# Altium integrated library Microchip Microcontroller 8-Bit PIC18.IntLib: 1312 symbols (part 42 of 56)
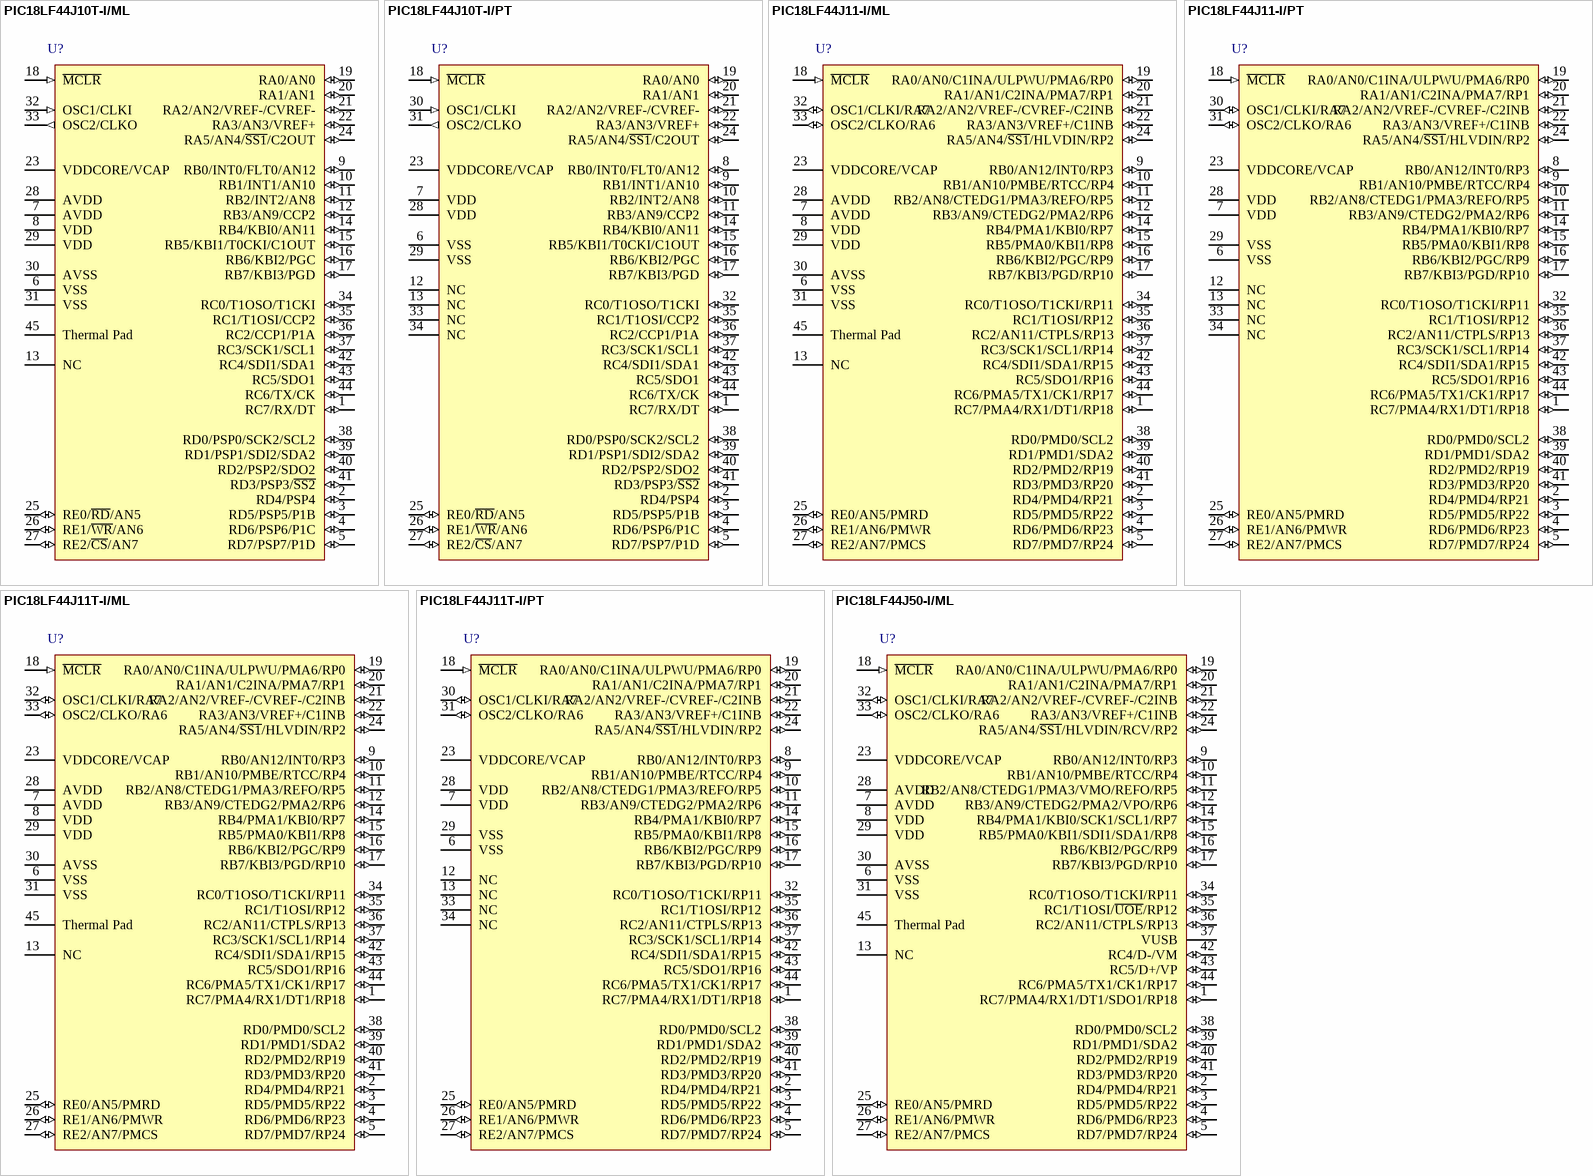
[diagram p189: symbols PIC18LF44J10T-I/ML to PIC18LF44J50-I/ML]

## PIC18LF44J10T-I/ML
designator U?
High Performance RISC Microcontroller with nanoWatt Technology, 16K Flash, 44-Pin QFN, Industrial Temperature Range, Tape and Reel; ComponentAvailability: Unknown. Contact manufacturer to determine status.; Published: 29-Jan-2009; LatestRevisionDate: 02-Dec-2009; LatestRevisionNote: Updated to datasheet revision E, May-2009; DatasheetVersion: revE, May-2009; PackageVersion: revBB, Aug-2009; PackageReference: QFN-ML44; Publisher: Altium Limited; PackageDescription: 44-Lead Plastic Quad Flat, No Lead Package (ML) - 8x8 mm Body [QFN]; Supplier 1: Digi-Key; Supplier Part Number 1: PIC18LF44J10T-I/ML-ND; Code_JEDEC: MO-220; Code_IPC: QFN65P800X800-44V2; ComponentLink1Description: Datasheet; ComponentLink1URL: http://ww1.microchip.com/downloads/en/DeviceDoc/39682E.pdf; ComponentLink2Description: Packaging Specification; ComponentLink2URL: http://www.microchip.com/stellent/groups/techpub_sg/documents/packagingspec/en012702.pdf; ComponentLink3Description: Microchip.com Home; ComponentLink3URL: http://www.microchip.com/
footprint QFN-ML44_N (QFN, 44-Leads, Body 8x8 mm, Pitch 0.65mm, IPC Medium Density)
footprint QFN-ML44_L (QFN, 44-Leads, Body 8x8 mm, Pitch 0.65mm, IPC High Density)
footprint QFN-ML44_M (QFN, 44-Leads, Body 8x8 mm, Pitch 0.65mm, IPC Low Density)
pins: 1 RC7/RX/DT (io), 2 RD4/PSP4 (io), 3 RD5/PSP5/P1B (io), 4 RD6/PSP6/P1C (io), 5 RD7/PSP7/P1D (io), 6 VSS (power), 7 AVDD (power), 8 VDD (power), 9 RB0/INT0/FLT0/AN12 (io), 10 RB1/INT1/AN10 (io), 11 RB2/INT2/AN8 (io), 12 RB3/AN9/CCP2 (io), 13 NC, 14 RB4/KBI0/AN11 (io), 15 RB5/KBI1/T0CKI/C1OUT (io), 16 RB6/KBI2/PGC (io), 17 RB7/KBI3/PGD (io), 18 ~{MCLR} (in), 19 RA0/AN0 (io), 20 RA1/AN1 (io), 21 RA2/AN2/VREF-/CVREF- (io), 22 RA3/AN3/VREF+ (io), 23 VDDCORE/VCAP (power), 24 RA5/AN4/~{SS1}/C2OUT (io), 25 RE0/~{RD}/AN5 (io), 26 RE1/~{WR}/AN6 (io), 27 RE2/~{CS}/AN7 (io), 28 AVDD (power), 29 VDD (power), 30 AVSS (power), 31 VSS (power), 32 OSC1/CLKI (in), 33 OSC2/CLKO (out), 34 RC0/T1OSO/T1CKI (io), 35 RC1/T1OSI/CCP2 (io), 36 RC2/CCP1/P1A (io), 37 RC3/SCK1/SCL1 (io), 38 RD0/PSP0/SCK2/SCL2 (io), 39 RD1/PSP1/SDI2/SDA2 (io), 40 RD2/PSP2/SDO2 (io), 41 RD3/PSP3/~{SS2} (io), 42 RC4/SDI1/SDA1 (io), 43 RC5/SDO1 (io), 44 RC6/TX/CK (io), 45 Thermal Pad (power)

## PIC18LF44J10T-I/PT
designator U?
High Performance RISC Microcontroller with nanoWatt Technology, 16K Flash, 44-Pin TQFP, Industrial Temperature Range, Tape and Reel; Published: 29-Jan-2009; LatestRevisionDate: 02-Dec-2009; LatestRevisionNote: Updated to datasheet revision E, May-2009; DatasheetVersion: revE, May-2009; PackageVersion: revBB, Aug-2009; PackageReference: TQFP-PT44; Publisher: Altium Limited; PackageDescription: 44-Lead Plastic Thin Quad Flatpack (PT) - 10x10x1mm Body, 2.00mm [TQFP]; Supplier 1: Digi-Key; Supplier Part Number 1: PIC18LF44J10T-I/PT-ND; Code_JEDEC: MS-026; ComponentLink1Description: Datasheet; ComponentLink1URL: http://ww1.microchip.com/downloads/en/DeviceDoc/39682E.pdf; ComponentLink2Description: Packaging Specification; ComponentLink2URL: http://www.microchip.com/stellent/groups/techpub_sg/documents/packagingspec/en012702.pdf; ComponentLink3Description: Microchip.com Home; ComponentLink3URL: http://www.microchip.com/
footprint TQFP-PT44_N (Thin QFP, 44-Leads, Body 10x10mm, Pitch 0.8mm, IPC Medium Density)
footprint TQFP-PT44_L (Thin QFP, 44-Leads, Body 10x10mm, Pitch 0.8mm, IPC High Density)
footprint TQFP-PT44_M (Thin QFP, 44-Leads, Body 10x10mm, Pitch 0.8mm, IPC Low Density)
pins: 1 RC7/RX/DT (io), 2 RD4/PSP4 (io), 3 RD5/PSP5/P1B (io), 4 RD6/PSP6/P1C (io), 5 RD7/PSP7/P1D (io), 6 VSS (power), 7 VDD (power), 8 RB0/INT0/FLT0/AN12 (io), 9 RB1/INT1/AN10 (io), 10 RB2/INT2/AN8 (io), 11 RB3/AN9/CCP2 (io), 12 NC, 13 NC, 14 RB4/KBI0/AN11 (io), 15 RB5/KBI1/T0CKI/C1OUT (io), 16 RB6/KBI2/PGC (io), 17 RB7/KBI3/PGD (io), 18 ~{MCLR} (in), 19 RA0/AN0 (io), 20 RA1/AN1 (io), 21 RA2/AN2/VREF-/CVREF- (io), 22 RA3/AN3/VREF+ (io), 23 VDDCORE/VCAP (power), 24 RA5/AN4/~{SS1}/C2OUT (io), 25 RE0/~{RD}/AN5 (io), 26 RE1/~{WR}/AN6 (io), 27 RE2/~{CS}/AN7 (io), 28 VDD (power), 29 VSS (power), 30 OSC1/CLKI (in), 31 OSC2/CLKO (out), 32 RC0/T1OSO/T1CKI (io), 33 NC, 34 NC, 35 RC1/T1OSI/CCP2 (io), 36 RC2/CCP1/P1A (io), 37 RC3/SCK1/SCL1 (io), 38 RD0/PSP0/SCK2/SCL2 (io), 39 RD1/PSP1/SDI2/SDA2 (io), 40 RD2/PSP2/SDO2 (io), 41 RD3/PSP3/~{SS2} (io), 42 RC4/SDI1/SDA1 (io), 43 RC5/SDO1 (io), 44 RC6/TX/CK (io)

## PIC18LF44J11-I/ML
designator U?
Low Power, High Performance Microcontroller with nanoWatt XLP Technology, 44-pin QFN, Industrial Temperature; Published: 2-Dec-2009; DatasheetVersion: revC, Oct-2009; PackageVersion: revBB, Aug-2009; PackageReference: QFN-ML44; Publisher: Altium Limited; PackageDescription: 44-Lead Plastic Quad Flat, No Lead Package (ML) - 8x8 mm Body [QFN]; Supplier 1: Digi-Key; Supplier Part Number 1: PIC18LF44J11-I/ML-ND; Supplier 2: Farnell; Supplier Part Number 2: 1770734; Code_JEDEC: MO-220; Code_IPC: QFN65P800X800-44V2; ComponentLink1Description: Datasheet; ComponentLink1URL: http://ww1.microchip.com/downloads/en/DeviceDoc/39932c.pdf; ComponentLink2Description: Packaging Specification; ComponentLink2URL: http://www.microchip.com/stellent/groups/techpub_sg/documents/packagingspec/en012702.pdf; ComponentLink3Description: Microchip.com Home; ComponentLink3URL: http://www.microchip.com/
footprint QFN-ML44_N (QFN, 44-Leads, Body 8x8 mm, Pitch 0.65mm, IPC Medium Density)
footprint QFN-ML44_L (QFN, 44-Leads, Body 8x8 mm, Pitch 0.65mm, IPC High Density)
footprint QFN-ML44_M (QFN, 44-Leads, Body 8x8 mm, Pitch 0.65mm, IPC Low Density)
pins: 1 RC7/PMA4/RX1/DT1/RP18 (io), 2 RD4/PMD4/RP21 (io), 3 RD5/PMD5/RP22 (io), 4 RD6/PMD6/RP23 (io), 5 RD7/PMD7/RP24 (io), 6 VSS (power), 7 AVDD (power), 8 VDD (power), 9 RB0/AN12/INT0/RP3 (io), 10 RB1/AN10/PMBE/RTCC/RP4 (io), 11 RB2/AN8/CTEDG1/PMA3/REFO/RP5 (io), 12 RB3/AN9/CTEDG2/PMA2/RP6 (io), 13 NC, 14 RB4/PMA1/KBI0/RP7 (io), 15 RB5/PMA0/KBI1/RP8 (io), 16 RB6/KBI2/PGC/RP9 (io), 17 RB7/KBI3/PGD/RP10 (io), 18 ~{MCLR} (in), 19 RA0/AN0/C1INA/ULPWU/PMA6/RP0 (io), 20 RA1/AN1/C2INA/PMA7/RP1 (io), 21 RA2/AN2/VREF-/CVREF-/C2INB (io), 22 RA3/AN3/VREF+/C1INB (io), 23 VDDCORE/VCAP (power), 24 RA5/AN4/~{SS1}/HLVDIN/RP2 (io), 25 RE0/AN5/PMRD (io), 26 RE1/AN6/PMWR (io), 27 RE2/AN7/PMCS (io), 28 AVDD (power), 29 VDD (power), 30 AVSS (power), 31 VSS (power), 32 OSC1/CLKI/RA7 (io), 33 OSC2/CLKO/RA6 (io), 34 RC0/T1OSO/T1CKI/RP11 (io), 35 RC1/T1OSI/RP12 (io), 36 RC2/AN11/CTPLS/RP13 (io), 37 RC3/SCK1/SCL1/RP14 (io), 38 RD0/PMD0/SCL2 (io), 39 RD1/PMD1/SDA2 (io), 40 RD2/PMD2/RP19 (io), 41 RD3/PMD3/RP20 (io), 42 RC4/SDI1/SDA1/RP15 (io), 43 RC5/SDO1/RP16 (io), 44 RC6/PMA5/TX1/CK1/RP17 (io), 45 Thermal Pad (power)

## PIC18LF44J11-I/PT
designator U?
Low Power, High Performance Microcontroller with nanoWatt XLP Technology, 44-pin TQFP, Industrial Temperature; Published: 2-Dec-2009; DatasheetVersion: revC, Oct-2009; PackageVersion: revBB, Aug-2009; PackageReference: TQFP-PT44; Publisher: Altium Limited; PackageDescription: 44-Lead Plastic Thin Quad Flatpack (PT) - 10x10x1mm Body, 2.00mm [TQFP]; Supplier 1: Digi-Key; Supplier Part Number 1: PIC18LF44J11-I/PT-ND; Supplier 2: Farnell; Supplier Part Number 2: 1770735; Code_JEDEC: MS-026; ComponentLink1Description: Datasheet; ComponentLink1URL: http://ww1.microchip.com/downloads/en/DeviceDoc/39932c.pdf; ComponentLink2Description: Packaging Specification; ComponentLink2URL: http://www.microchip.com/stellent/groups/techpub_sg/documents/packagingspec/en012702.pdf; ComponentLink3Description: Microchip.com Home; ComponentLink3URL: http://www.microchip.com/
footprint TQFP-PT44_N (Thin QFP, 44-Leads, Body 10x10mm, Pitch 0.8mm, IPC Medium Density)
footprint TQFP-PT44_L (Thin QFP, 44-Leads, Body 10x10mm, Pitch 0.8mm, IPC High Density)
footprint TQFP-PT44_M (Thin QFP, 44-Leads, Body 10x10mm, Pitch 0.8mm, IPC Low Density)
pins: 1 RC7/PMA4/RX1/DT1/RP18 (io), 2 RD4/PMD4/RP21 (io), 3 RD5/PMD5/RP22 (io), 4 RD6/PMD6/RP23 (io), 5 RD7/PMD7/RP24 (io), 6 VSS (power), 7 VDD (power), 8 RB0/AN12/INT0/RP3 (io), 9 RB1/AN10/PMBE/RTCC/RP4 (io), 10 RB2/AN8/CTEDG1/PMA3/REFO/RP5 (io), 11 RB3/AN9/CTEDG2/PMA2/RP6 (io), 12 NC, 13 NC, 14 RB4/PMA1/KBI0/RP7 (io), 15 RB5/PMA0/KBI1/RP8 (io), 16 RB6/KBI2/PGC/RP9 (io), 17 RB7/KBI3/PGD/RP10 (io), 18 ~{MCLR} (in), 19 RA0/AN0/C1INA/ULPWU/PMA6/RP0 (io), 20 RA1/AN1/C2INA/PMA7/RP1 (io), 21 RA2/AN2/VREF-/CVREF-/C2INB (io), 22 RA3/AN3/VREF+/C1INB (io), 23 VDDCORE/VCAP (power), 24 RA5/AN4/~{SS1}/HLVDIN/RP2 (io), 25 RE0/AN5/PMRD (io), 26 RE1/AN6/PMWR (io), 27 RE2/AN7/PMCS (io), 28 VDD (power), 29 VSS (power), 30 OSC1/CLKI/RA7 (io), 31 OSC2/CLKO/RA6 (io), 32 RC0/T1OSO/T1CKI/RP11 (io), 33 NC, 34 NC, 35 RC1/T1OSI/RP12 (io), 36 RC2/AN11/CTPLS/RP13 (io), 37 RC3/SCK1/SCL1/RP14 (io), 38 RD0/PMD0/SCL2 (io), 39 RD1/PMD1/SDA2 (io), 40 RD2/PMD2/RP19 (io), 41 RD3/PMD3/RP20 (io), 42 RC4/SDI1/SDA1/RP15 (io), 43 RC5/SDO1/RP16 (io), 44 RC6/PMA5/TX1/CK1/RP17 (io)

## PIC18LF44J11T-I/ML
designator U?
Low Power, High Performance Microcontroller with nanoWatt XLP Technology, 44-pin QFN, Industrial Temperature, Tape and Reel; Published: 2-Dec-2009; DatasheetVersion: revC, Oct-2009; PackageVersion: revBB, Aug-2009; PackageReference: QFN-ML44; Publisher: Altium Limited; PackageDescription: 44-Lead Plastic Quad Flat, No Lead Package (ML) - 8x8 mm Body [QFN]; Supplier 1: Digi-Key; Supplier Part Number 1: PIC18LF44J11T-I/ML-ND; Code_JEDEC: MO-220; Code_IPC: QFN65P800X800-44V2; ComponentLink1Description: Datasheet; ComponentLink1URL: http://ww1.microchip.com/downloads/en/DeviceDoc/39932c.pdf; ComponentLink2Description: Packaging Specification; ComponentLink2URL: http://www.microchip.com/stellent/groups/techpub_sg/documents/packagingspec/en012702.pdf; ComponentLink3Description: Microchip.com Home; ComponentLink3URL: http://www.microchip.com/
footprint QFN-ML44_N (QFN, 44-Leads, Body 8x8 mm, Pitch 0.65mm, IPC Medium Density)
footprint QFN-ML44_L (QFN, 44-Leads, Body 8x8 mm, Pitch 0.65mm, IPC High Density)
footprint QFN-ML44_M (QFN, 44-Leads, Body 8x8 mm, Pitch 0.65mm, IPC Low Density)
pins: 1 RC7/PMA4/RX1/DT1/RP18 (io), 2 RD4/PMD4/RP21 (io), 3 RD5/PMD5/RP22 (io), 4 RD6/PMD6/RP23 (io), 5 RD7/PMD7/RP24 (io), 6 VSS (power), 7 AVDD (power), 8 VDD (power), 9 RB0/AN12/INT0/RP3 (io), 10 RB1/AN10/PMBE/RTCC/RP4 (io), 11 RB2/AN8/CTEDG1/PMA3/REFO/RP5 (io), 12 RB3/AN9/CTEDG2/PMA2/RP6 (io), 13 NC, 14 RB4/PMA1/KBI0/RP7 (io), 15 RB5/PMA0/KBI1/RP8 (io), 16 RB6/KBI2/PGC/RP9 (io), 17 RB7/KBI3/PGD/RP10 (io), 18 ~{MCLR} (in), 19 RA0/AN0/C1INA/ULPWU/PMA6/RP0 (io), 20 RA1/AN1/C2INA/PMA7/RP1 (io), 21 RA2/AN2/VREF-/CVREF-/C2INB (io), 22 RA3/AN3/VREF+/C1INB (io), 23 VDDCORE/VCAP (power), 24 RA5/AN4/~{SS1}/HLVDIN/RP2 (io), 25 RE0/AN5/PMRD (io), 26 RE1/AN6/PMWR (io), 27 RE2/AN7/PMCS (io), 28 AVDD (power), 29 VDD (power), 30 AVSS (power), 31 VSS (power), 32 OSC1/CLKI/RA7 (io), 33 OSC2/CLKO/RA6 (io), 34 RC0/T1OSO/T1CKI/RP11 (io), 35 RC1/T1OSI/RP12 (io), 36 RC2/AN11/CTPLS/RP13 (io), 37 RC3/SCK1/SCL1/RP14 (io), 38 RD0/PMD0/SCL2 (io), 39 RD1/PMD1/SDA2 (io), 40 RD2/PMD2/RP19 (io), 41 RD3/PMD3/RP20 (io), 42 RC4/SDI1/SDA1/RP15 (io), 43 RC5/SDO1/RP16 (io), 44 RC6/PMA5/TX1/CK1/RP17 (io), 45 Thermal Pad (power)

## PIC18LF44J11T-I/PT
designator U?
Low Power, High Performance Microcontroller with nanoWatt XLP Technology, 44-pin TQFP, Industrial Temperature, Tape and Reel; Published: 2-Dec-2009; DatasheetVersion: revC, Oct-2009; PackageVersion: revBB, Aug-2009; PackageReference: TQFP-PT44; Publisher: Altium Limited; PackageDescription: 44-Lead Plastic Thin Quad Flatpack (PT) - 10x10x1mm Body, 2.00mm [TQFP]; Supplier 1: Digi-Key; Supplier Part Number 1: PIC18LF44J11T-I/PT-ND; Code_JEDEC: MS-026; ComponentLink1Description: Datasheet; ComponentLink1URL: http://ww1.microchip.com/downloads/en/DeviceDoc/39932c.pdf; ComponentLink2Description: Packaging Specification; ComponentLink2URL: http://www.microchip.com/stellent/groups/techpub_sg/documents/packagingspec/en012702.pdf; ComponentLink3Description: Microchip.com Home; ComponentLink3URL: http://www.microchip.com/
footprint TQFP-PT44_N (Thin QFP, 44-Leads, Body 10x10mm, Pitch 0.8mm, IPC Medium Density)
footprint TQFP-PT44_L (Thin QFP, 44-Leads, Body 10x10mm, Pitch 0.8mm, IPC High Density)
footprint TQFP-PT44_M (Thin QFP, 44-Leads, Body 10x10mm, Pitch 0.8mm, IPC Low Density)
pins: 1 RC7/PMA4/RX1/DT1/RP18 (io), 2 RD4/PMD4/RP21 (io), 3 RD5/PMD5/RP22 (io), 4 RD6/PMD6/RP23 (io), 5 RD7/PMD7/RP24 (io), 6 VSS (power), 7 VDD (power), 8 RB0/AN12/INT0/RP3 (io), 9 RB1/AN10/PMBE/RTCC/RP4 (io), 10 RB2/AN8/CTEDG1/PMA3/REFO/RP5 (io), 11 RB3/AN9/CTEDG2/PMA2/RP6 (io), 12 NC, 13 NC, 14 RB4/PMA1/KBI0/RP7 (io), 15 RB5/PMA0/KBI1/RP8 (io), 16 RB6/KBI2/PGC/RP9 (io), 17 RB7/KBI3/PGD/RP10 (io), 18 ~{MCLR} (in), 19 RA0/AN0/C1INA/ULPWU/PMA6/RP0 (io), 20 RA1/AN1/C2INA/PMA7/RP1 (io), 21 RA2/AN2/VREF-/CVREF-/C2INB (io), 22 RA3/AN3/VREF+/C1INB (io), 23 VDDCORE/VCAP (power), 24 RA5/AN4/~{SS1}/HLVDIN/RP2 (io), 25 RE0/AN5/PMRD (io), 26 RE1/AN6/PMWR (io), 27 RE2/AN7/PMCS (io), 28 VDD (power), 29 VSS (power), 30 OSC1/CLKI/RA7 (io), 31 OSC2/CLKO/RA6 (io), 32 RC0/T1OSO/T1CKI/RP11 (io), 33 NC, 34 NC, 35 RC1/T1OSI/RP12 (io), 36 RC2/AN11/CTPLS/RP13 (io), 37 RC3/SCK1/SCL1/RP14 (io), 38 RD0/PMD0/SCL2 (io), 39 RD1/PMD1/SDA2 (io), 40 RD2/PMD2/RP19 (io), 41 RD3/PMD3/RP20 (io), 42 RC4/SDI1/SDA1/RP15 (io), 43 RC5/SDO1/RP16 (io), 44 RC6/PMA5/TX1/CK1/RP17 (io)

## PIC18LF44J50-I/ML
designator U?
Low Power, High Performance USB Microcontroller with nanoWatt XLP Technology, 44-pin QFN, Industrial Temperature; Published: 2-Dec-2009; DatasheetVersion: revC, Oct-2009; PackageVersion: revBB, Aug-2009; PackageReference: QFN-ML44; Publisher: Altium Limited; PackageDescription: 44-Lead Plastic Quad Flat, No Lead Package (ML) - 8x8 mm Body [QFN]; Supplier 1: Digi-Key; Supplier Part Number 1: PIC18LF44J50-I/ML-ND; Supplier 2: Farnell; Supplier Part Number 2: 1770736; Code_JEDEC: MO-220; Code_IPC: QFN65P800X800-44V2; ComponentLink1Description: Datasheet; ComponentLink1URL: http://ww1.microchip.com/downloads/en/DeviceDoc/39931c.pdf; ComponentLink2Description: Packaging Specification; ComponentLink2URL: http://www.microchip.com/stellent/groups/techpub_sg/documents/packagingspec/en012702.pdf; ComponentLink3Description: Microchip.com Home; ComponentLink3URL: http://www.microchip.com/
footprint QFN-ML44_N (QFN, 44-Leads, Body 8x8 mm, Pitch 0.65mm, IPC Medium Density)
footprint QFN-ML44_L (QFN, 44-Leads, Body 8x8 mm, Pitch 0.65mm, IPC High Density)
footprint QFN-ML44_M (QFN, 44-Leads, Body 8x8 mm, Pitch 0.65mm, IPC Low Density)
pins: 1 RC7/PMA4/RX1/DT1/SDO1/RP18 (io), 2 RD4/PMD4/RP21 (io), 3 RD5/PMD5/RP22 (io), 4 RD6/PMD6/RP23 (io), 5 RD7/PMD7/RP24 (io), 6 VSS (power), 7 AVDD (power), 8 VDD (power), 9 RB0/AN12/INT0/RP3 (io), 10 RB1/AN10/PMBE/RTCC/RP4 (io), 11 RB2/AN8/CTEDG1/PMA3/VMO/REFO/RP5 (io), 12 RB3/AN9/CTEDG2/PMA2/VPO/RP6 (io), 13 NC, 14 RB4/PMA1/KBI0/SCK1/SCL1/RP7 (io), 15 RB5/PMA0/KBI1/SDI1/SDA1/RP8 (io), 16 RB6/KBI2/PGC/RP9 (io), 17 RB7/KBI3/PGD/RP10 (io), 18 ~{MCLR} (in), 19 RA0/AN0/C1INA/ULPWU/PMA6/RP0 (io), 20 RA1/AN1/C2INA/PMA7/RP1 (io), 21 RA2/AN2/VREF-/CVREF-/C2INB (io), 22 RA3/AN3/VREF+/C1INB (io), 23 VDDCORE/VCAP (power), 24 RA5/AN4/~{SS1}/HLVDIN/RCV/RP2 (io), 25 RE0/AN5/PMRD (io), 26 RE1/AN6/PMWR (io), 27 RE2/AN7/PMCS (io), 28 AVDD (power), 29 VDD (power), 30 AVSS (power), 31 VSS (power), 32 OSC1/CLKI/RA7 (io), 33 OSC2/CLKO/RA6 (io), 34 RC0/T1OSO/T1CKI/RP11 (io), 35 RC1/T1OSI/~{UOE}/RP12 (io), 36 RC2/AN11/CTPLS/RP13 (io), 37 VUSB (power), 38 RD0/PMD0/SCL2 (io), 39 RD1/PMD1/SDA2 (io), 40 RD2/PMD2/RP19 (io), 41 RD3/PMD3/RP20 (io), 42 RC4/D-/VM (io), 43 RC5/D+/VP (io), 44 RC6/PMA5/TX1/CK1/RP17 (io), 45 Thermal Pad (power)

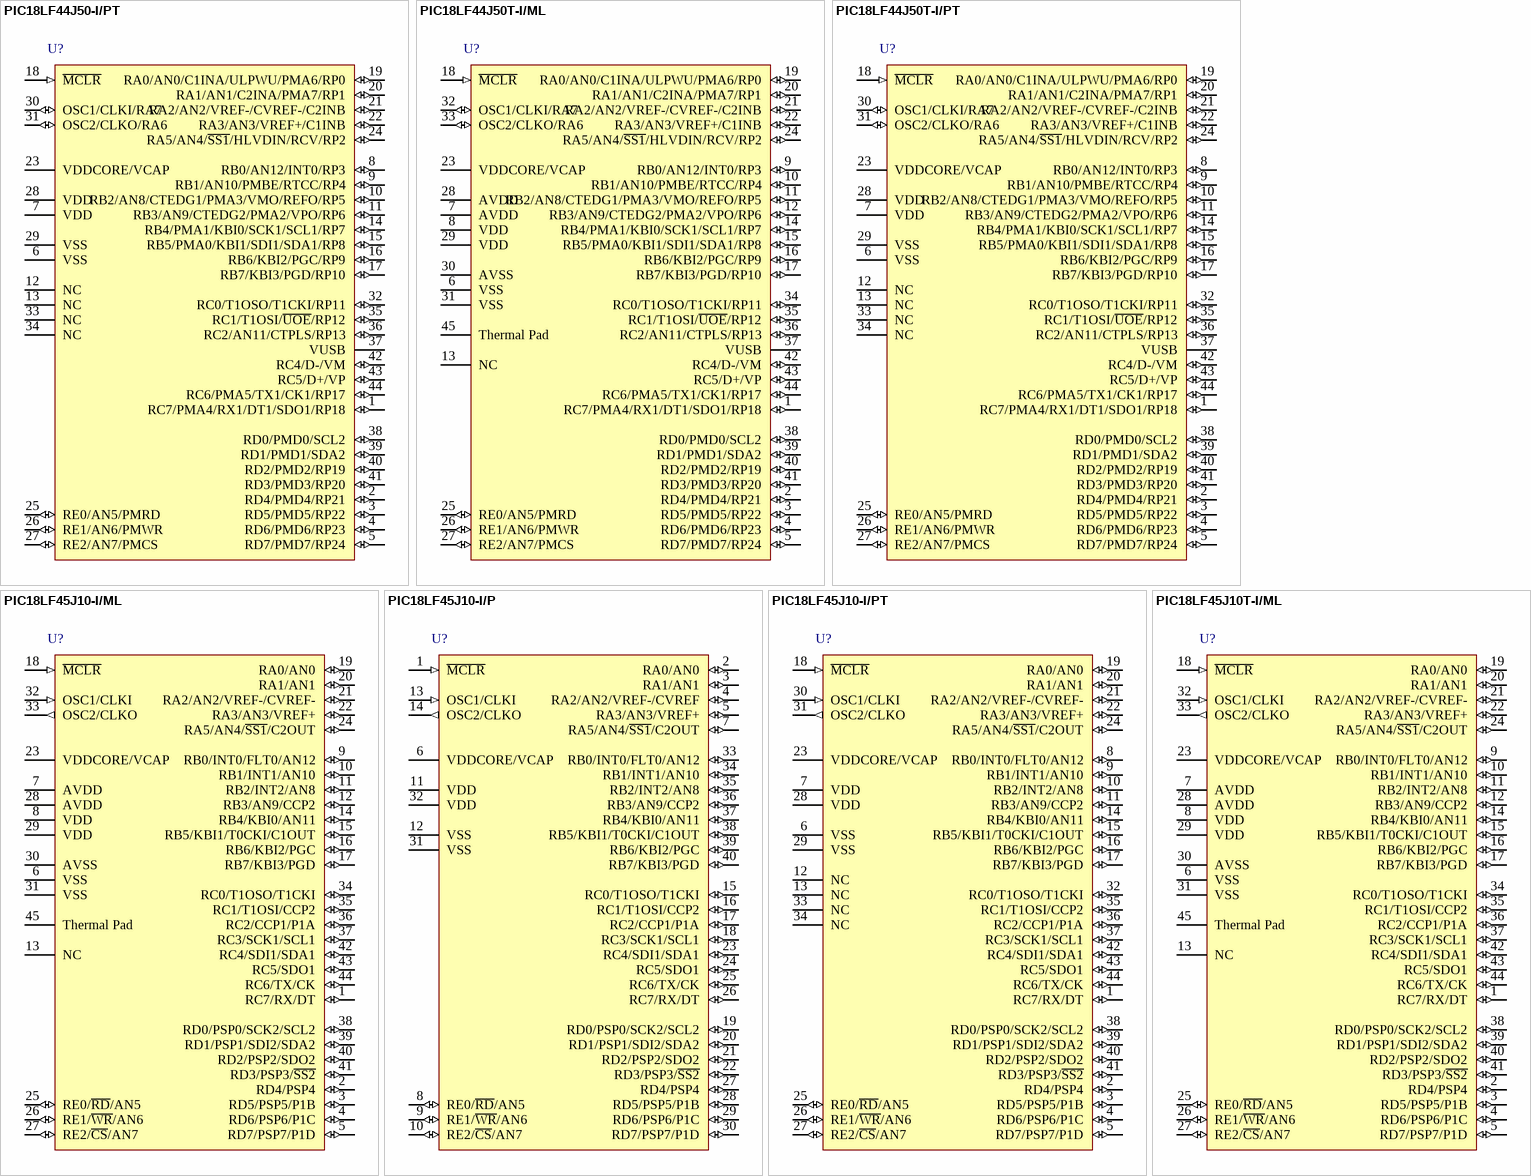
[diagram p113: symbols PIC18LF44J50-I/PT to PIC18LF45J10T-I/ML]

## PIC18LF44J50-I/PT
designator U?
Low Power, High Performance USB Microcontroller with nanoWatt XLP Technology, 44-pin TQFP, Industrial Temperature; Published: 2-Dec-2009; DatasheetVersion: revC, Oct-2009; PackageVersion: revBB, Aug-2009; PackageReference: TQFP-PT44; Publisher: Altium Limited; PackageDescription: 44-Lead Plastic Thin Quad Flatpack (PT) - 10x10x1mm Body, 2.00mm [TQFP]; Supplier 1: Digi-Key; Supplier Part Number 1: PIC18LF44J50-I/PT-ND; Supplier 2: Farnell; Supplier Part Number 2: 1770737; Code_JEDEC: MS-026; ComponentLink1Description: Datasheet; ComponentLink1URL: http://ww1.microchip.com/downloads/en/DeviceDoc/39931c.pdf; ComponentLink2Description: Packaging Specification; ComponentLink2URL: http://www.microchip.com/stellent/groups/techpub_sg/documents/packagingspec/en012702.pdf; ComponentLink3Description: Microchip.com Home; ComponentLink3URL: http://www.microchip.com/
footprint TQFP-PT44_N (Thin QFP, 44-Leads, Body 10x10mm, Pitch 0.8mm, IPC Medium Density)
footprint TQFP-PT44_L (Thin QFP, 44-Leads, Body 10x10mm, Pitch 0.8mm, IPC High Density)
footprint TQFP-PT44_M (Thin QFP, 44-Leads, Body 10x10mm, Pitch 0.8mm, IPC Low Density)
pins: 1 RC7/PMA4/RX1/DT1/SDO1/RP18 (io), 2 RD4/PMD4/RP21 (io), 3 RD5/PMD5/RP22 (io), 4 RD6/PMD6/RP23 (io), 5 RD7/PMD7/RP24 (io), 6 VSS (power), 7 VDD (power), 8 RB0/AN12/INT0/RP3 (io), 9 RB1/AN10/PMBE/RTCC/RP4 (io), 10 RB2/AN8/CTEDG1/PMA3/VMO/REFO/RP5 (io), 11 RB3/AN9/CTEDG2/PMA2/VPO/RP6 (io), 12 NC, 13 NC, 14 RB4/PMA1/KBI0/SCK1/SCL1/RP7 (io), 15 RB5/PMA0/KBI1/SDI1/SDA1/RP8 (io), 16 RB6/KBI2/PGC/RP9 (io), 17 RB7/KBI3/PGD/RP10 (io), 18 ~{MCLR} (in), 19 RA0/AN0/C1INA/ULPWU/PMA6/RP0 (io), 20 RA1/AN1/C2INA/PMA7/RP1 (io), 21 RA2/AN2/VREF-/CVREF-/C2INB (io), 22 RA3/AN3/VREF+/C1INB (io), 23 VDDCORE/VCAP (power), 24 RA5/AN4/~{SS1}/HLVDIN/RCV/RP2 (io), 25 RE0/AN5/PMRD (io), 26 RE1/AN6/PMWR (io), 27 RE2/AN7/PMCS (io), 28 VDD (power), 29 VSS (power), 30 OSC1/CLKI/RA7 (io), 31 OSC2/CLKO/RA6 (io), 32 RC0/T1OSO/T1CKI/RP11 (io), 33 NC, 34 NC, 35 RC1/T1OSI/~{UOE}/RP12 (io), 36 RC2/AN11/CTPLS/RP13 (io), 37 VUSB (power), 38 RD0/PMD0/SCL2 (io), 39 RD1/PMD1/SDA2 (io), 40 RD2/PMD2/RP19 (io), 41 RD3/PMD3/RP20 (io), 42 RC4/D-/VM (io), 43 RC5/D+/VP (io), 44 RC6/PMA5/TX1/CK1/RP17 (io)

## PIC18LF44J50T-I/ML
designator U?
Low Power, High Performance USB Microcontroller with nanoWatt XLP Technology, 44-pin QFN, Industrial Temperature, Tape and Reel; Published: 2-Dec-2009; DatasheetVersion: revC, Oct-2009; PackageVersion: revBB, Aug-2009; PackageReference: QFN-ML44; Publisher: Altium Limited; PackageDescription: 44-Lead Plastic Quad Flat, No Lead Package (ML) - 8x8 mm Body [QFN]; Supplier 1: Digi-Key; Supplier Part Number 1: PIC18LF44J50T-I/ML-ND; Code_JEDEC: MO-220; Code_IPC: QFN65P800X800-44V2; ComponentLink1Description: Datasheet; ComponentLink1URL: http://ww1.microchip.com/downloads/en/DeviceDoc/39931c.pdf; ComponentLink2Description: Packaging Specification; ComponentLink2URL: http://www.microchip.com/stellent/groups/techpub_sg/documents/packagingspec/en012702.pdf; ComponentLink3Description: Microchip.com Home; ComponentLink3URL: http://www.microchip.com/
footprint QFN-ML44_N (QFN, 44-Leads, Body 8x8 mm, Pitch 0.65mm, IPC Medium Density)
footprint QFN-ML44_L (QFN, 44-Leads, Body 8x8 mm, Pitch 0.65mm, IPC High Density)
footprint QFN-ML44_M (QFN, 44-Leads, Body 8x8 mm, Pitch 0.65mm, IPC Low Density)
pins: 1 RC7/PMA4/RX1/DT1/SDO1/RP18 (io), 2 RD4/PMD4/RP21 (io), 3 RD5/PMD5/RP22 (io), 4 RD6/PMD6/RP23 (io), 5 RD7/PMD7/RP24 (io), 6 VSS (power), 7 AVDD (power), 8 VDD (power), 9 RB0/AN12/INT0/RP3 (io), 10 RB1/AN10/PMBE/RTCC/RP4 (io), 11 RB2/AN8/CTEDG1/PMA3/VMO/REFO/RP5 (io), 12 RB3/AN9/CTEDG2/PMA2/VPO/RP6 (io), 13 NC, 14 RB4/PMA1/KBI0/SCK1/SCL1/RP7 (io), 15 RB5/PMA0/KBI1/SDI1/SDA1/RP8 (io), 16 RB6/KBI2/PGC/RP9 (io), 17 RB7/KBI3/PGD/RP10 (io), 18 ~{MCLR} (in), 19 RA0/AN0/C1INA/ULPWU/PMA6/RP0 (io), 20 RA1/AN1/C2INA/PMA7/RP1 (io), 21 RA2/AN2/VREF-/CVREF-/C2INB (io), 22 RA3/AN3/VREF+/C1INB (io), 23 VDDCORE/VCAP (power), 24 RA5/AN4/~{SS1}/HLVDIN/RCV/RP2 (io), 25 RE0/AN5/PMRD (io), 26 RE1/AN6/PMWR (io), 27 RE2/AN7/PMCS (io), 28 AVDD (power), 29 VDD (power), 30 AVSS (power), 31 VSS (power), 32 OSC1/CLKI/RA7 (io), 33 OSC2/CLKO/RA6 (io), 34 RC0/T1OSO/T1CKI/RP11 (io), 35 RC1/T1OSI/~{UOE}/RP12 (io), 36 RC2/AN11/CTPLS/RP13 (io), 37 VUSB (power), 38 RD0/PMD0/SCL2 (io), 39 RD1/PMD1/SDA2 (io), 40 RD2/PMD2/RP19 (io), 41 RD3/PMD3/RP20 (io), 42 RC4/D-/VM (io), 43 RC5/D+/VP (io), 44 RC6/PMA5/TX1/CK1/RP17 (io), 45 Thermal Pad (power)

## PIC18LF44J50T-I/PT
designator U?
Low Power, High Performance USB Microcontroller with nanoWatt XLP Technology, 44-pin TQFP, Industrial Temperature, Tape and Reel; Published: 2-Dec-2009; DatasheetVersion: revC, Oct-2009; PackageVersion: revBB, Aug-2009; PackageReference: TQFP-PT44; Publisher: Altium Limited; PackageDescription: 44-Lead Plastic Thin Quad Flatpack (PT) - 10x10x1mm Body, 2.00mm [TQFP]; Supplier 1: Digi-Key; Supplier Part Number 1: PIC18LF44J50T-I/PT-ND; Code_JEDEC: MS-026; ComponentLink1Description: Datasheet; ComponentLink1URL: http://ww1.microchip.com/downloads/en/DeviceDoc/39931c.pdf; ComponentLink2Description: Packaging Specification; ComponentLink2URL: http://www.microchip.com/stellent/groups/techpub_sg/documents/packagingspec/en012702.pdf; ComponentLink3Description: Microchip.com Home; ComponentLink3URL: http://www.microchip.com/
footprint TQFP-PT44_N (Thin QFP, 44-Leads, Body 10x10mm, Pitch 0.8mm, IPC Medium Density)
footprint TQFP-PT44_L (Thin QFP, 44-Leads, Body 10x10mm, Pitch 0.8mm, IPC High Density)
footprint TQFP-PT44_M (Thin QFP, 44-Leads, Body 10x10mm, Pitch 0.8mm, IPC Low Density)
pins: 1 RC7/PMA4/RX1/DT1/SDO1/RP18 (io), 2 RD4/PMD4/RP21 (io), 3 RD5/PMD5/RP22 (io), 4 RD6/PMD6/RP23 (io), 5 RD7/PMD7/RP24 (io), 6 VSS (power), 7 VDD (power), 8 RB0/AN12/INT0/RP3 (io), 9 RB1/AN10/PMBE/RTCC/RP4 (io), 10 RB2/AN8/CTEDG1/PMA3/VMO/REFO/RP5 (io), 11 RB3/AN9/CTEDG2/PMA2/VPO/RP6 (io), 12 NC, 13 NC, 14 RB4/PMA1/KBI0/SCK1/SCL1/RP7 (io), 15 RB5/PMA0/KBI1/SDI1/SDA1/RP8 (io), 16 RB6/KBI2/PGC/RP9 (io), 17 RB7/KBI3/PGD/RP10 (io), 18 ~{MCLR} (in), 19 RA0/AN0/C1INA/ULPWU/PMA6/RP0 (io), 20 RA1/AN1/C2INA/PMA7/RP1 (io), 21 RA2/AN2/VREF-/CVREF-/C2INB (io), 22 RA3/AN3/VREF+/C1INB (io), 23 VDDCORE/VCAP (power), 24 RA5/AN4/~{SS1}/HLVDIN/RCV/RP2 (io), 25 RE0/AN5/PMRD (io), 26 RE1/AN6/PMWR (io), 27 RE2/AN7/PMCS (io), 28 VDD (power), 29 VSS (power), 30 OSC1/CLKI/RA7 (io), 31 OSC2/CLKO/RA6 (io), 32 RC0/T1OSO/T1CKI/RP11 (io), 33 NC, 34 NC, 35 RC1/T1OSI/~{UOE}/RP12 (io), 36 RC2/AN11/CTPLS/RP13 (io), 37 VUSB (power), 38 RD0/PMD0/SCL2 (io), 39 RD1/PMD1/SDA2 (io), 40 RD2/PMD2/RP19 (io), 41 RD3/PMD3/RP20 (io), 42 RC4/D-/VM (io), 43 RC5/D+/VP (io), 44 RC6/PMA5/TX1/CK1/RP17 (io)

## PIC18LF45J10-I/ML
designator U?
High Performance RISC Microcontroller with nanoWatt Technology, 32K Flash, 44-Pin QFN, Industrial Temperature Range; Published: 29-Jan-2009; LatestRevisionDate: 02-Dec-2009; LatestRevisionNote: Updated to datasheet revision E, May-2009; DatasheetVersion: revE, May-2009; PackageVersion: revBB, Aug-2009; PackageReference: QFN-ML44; Publisher: Altium Limited; PackageDescription: 44-Lead Plastic Quad Flat, No Lead Package (ML) - 8x8 mm Body [QFN]; Supplier 1: Digi-Key; Supplier Part Number 1: PIC18LF45J10-I/ML-ND; Code_JEDEC: MO-220; Code_IPC: QFN65P800X800-44V2; ComponentLink1Description: Datasheet; ComponentLink1URL: http://ww1.microchip.com/downloads/en/DeviceDoc/39682E.pdf; ComponentLink2Description: Packaging Specification; ComponentLink2URL: http://www.microchip.com/stellent/groups/techpub_sg/documents/packagingspec/en012702.pdf; ComponentLink3Description: Microchip.com Home; ComponentLink3URL: http://www.microchip.com/
footprint QFN-ML44_N (QFN, 44-Leads, Body 8x8 mm, Pitch 0.65mm, IPC Medium Density)
footprint QFN-ML44_L (QFN, 44-Leads, Body 8x8 mm, Pitch 0.65mm, IPC High Density)
footprint QFN-ML44_M (QFN, 44-Leads, Body 8x8 mm, Pitch 0.65mm, IPC Low Density)
pins: 1 RC7/RX/DT (io), 2 RD4/PSP4 (io), 3 RD5/PSP5/P1B (io), 4 RD6/PSP6/P1C (io), 5 RD7/PSP7/P1D (io), 6 VSS (power), 7 AVDD (power), 8 VDD (power), 9 RB0/INT0/FLT0/AN12 (io), 10 RB1/INT1/AN10 (io), 11 RB2/INT2/AN8 (io), 12 RB3/AN9/CCP2 (io), 13 NC, 14 RB4/KBI0/AN11 (io), 15 RB5/KBI1/T0CKI/C1OUT (io), 16 RB6/KBI2/PGC (io), 17 RB7/KBI3/PGD (io), 18 ~{MCLR} (in), 19 RA0/AN0 (io), 20 RA1/AN1 (io), 21 RA2/AN2/VREF-/CVREF- (io), 22 RA3/AN3/VREF+ (io), 23 VDDCORE/VCAP (power), 24 RA5/AN4/~{SS1}/C2OUT (io), 25 RE0/~{RD}/AN5 (io), 26 RE1/~{WR}/AN6 (io), 27 RE2/~{CS}/AN7 (io), 28 AVDD (power), 29 VDD (power), 30 AVSS (power), 31 VSS (power), 32 OSC1/CLKI (in), 33 OSC2/CLKO (out), 34 RC0/T1OSO/T1CKI (io), 35 RC1/T1OSI/CCP2 (io), 36 RC2/CCP1/P1A (io), 37 RC3/SCK1/SCL1 (io), 38 RD0/PSP0/SCK2/SCL2 (io), 39 RD1/PSP1/SDI2/SDA2 (io), 40 RD2/PSP2/SDO2 (io), 41 RD3/PSP3/~{SS2} (io), 42 RC4/SDI1/SDA1 (io), 43 RC5/SDO1 (io), 44 RC6/TX/CK (io), 45 Thermal Pad (power)

## PIC18LF45J10-I/P
designator U?
High Performance RISC Microcontroller with nanoWatt Technology, 32K Flash, 40-Pin PDIP, Industrial Temperature Range; Published: 29-Jan-2009; LatestRevisionDate: 02-Dec-2009; LatestRevisionNote: Updated to datasheet revision E, May-2009; DatasheetVersion: revE, May-2009; PackageVersion: revBB, Aug-2009; PackageReference: PDIP600-P40; Publisher: Altium Limited; PackageDescription: 40-Lead Plastic Dual In-Line (P) - 600 mil Body [PDIP]; Supplier 1: Digi-Key; Supplier Part Number 1: PIC18LF45J10-I/P-ND; ComponentLink1Description: Datasheet; ComponentLink1URL: http://ww1.microchip.com/downloads/en/DeviceDoc/39682E.pdf; ComponentLink2Description: Packaging Specification; ComponentLink2URL: http://www.microchip.com/stellent/groups/techpub_sg/documents/packagingspec/en012702.pdf; ComponentLink3Description: Microchip.com Home; ComponentLink3URL: http://www.microchip.com/
footprint PDIP600-P40 (DIP, 40-Leads, Row Spacing 15.24mm, Pitch 2.54mm, Body 51.8x13.5mm)
pins: 1 ~{MCLR} (in), 2 RA0/AN0 (io), 3 RA1/AN1 (io), 4 RA2/AN2/VREF-/CVREF (io), 5 RA3/AN3/VREF+ (io), 6 VDDCORE/VCAP (power), 7 RA5/AN4/~{SS1}/C2OUT (io), 8 RE0/~{RD}/AN5 (io), 9 RE1/~{WR}/AN6 (io), 10 RE2/~{CS}/AN7 (io), 11 VDD (power), 12 VSS (power), 13 OSC1/CLKI (in), 14 OSC2/CLKO (out), 15 RC0/T1OSO/T1CKI (io), 16 RC1/T1OSI/CCP2 (io), 17 RC2/CCP1/P1A (io), 18 RC3/SCK1/SCL1 (io), 19 RD0/PSP0/SCK2/SCL2 (io), 20 RD1/PSP1/SDI2/SDA2 (io), 21 RD2/PSP2/SDO2 (io), 22 RD3/PSP3/~{SS2} (io), 23 RC4/SDI1/SDA1 (io), 24 RC5/SDO1 (io), 25 RC6/TX/CK (io), 26 RC7/RX/DT (io), 27 RD4/PSP4 (io), 28 RD5/PSP5/P1B (io), 29 RD6/PSP6/P1C (io), 30 RD7/PSP7/P1D (io), 31 VSS (power), 32 VDD (power), 33 RB0/INT0/FLT0/AN12 (io), 34 RB1/INT1/AN10 (io), 35 RB2/INT2/AN8 (io), 36 RB3/AN9/CCP2 (io), 37 RB4/KBI0/AN11 (io), 38 RB5/KBI1/T0CKI/C1OUT (io), 39 RB6/KBI2/PGC (io), 40 RB7/KBI3/PGD (io)

## PIC18LF45J10-I/PT
designator U?
High Performance RISC Microcontroller with nanoWatt Technology, 32K Flash, 44-Pin TQFP, Industrial Temperature Range; Published: 29-Jan-2009; LatestRevisionDate: 02-Dec-2009; LatestRevisionNote: Updated to datasheet revision E, May-2009; DatasheetVersion: revE, May-2009; PackageVersion: revBB, Aug-2009; PackageReference: TQFP-PT44; Publisher: Altium Limited; PackageDescription: 44-Lead Plastic Thin Quad Flatpack (PT) - 10x10x1mm Body, 2.00mm [TQFP]; Supplier 1: Digi-Key; Supplier Part Number 1: PIC18LF45J10-I/PT-ND; Code_JEDEC: MS-026; ComponentLink1Description: Datasheet; ComponentLink1URL: http://ww1.microchip.com/downloads/en/DeviceDoc/39682E.pdf; ComponentLink2Description: Packaging Specification; ComponentLink2URL: http://www.microchip.com/stellent/groups/techpub_sg/documents/packagingspec/en012702.pdf; ComponentLink3Description: Microchip.com Home; ComponentLink3URL: http://www.microchip.com/
footprint TQFP-PT44_N (Thin QFP, 44-Leads, Body 10x10mm, Pitch 0.8mm, IPC Medium Density)
footprint TQFP-PT44_L (Thin QFP, 44-Leads, Body 10x10mm, Pitch 0.8mm, IPC High Density)
footprint TQFP-PT44_M (Thin QFP, 44-Leads, Body 10x10mm, Pitch 0.8mm, IPC Low Density)
pins: 1 RC7/RX/DT (io), 2 RD4/PSP4 (io), 3 RD5/PSP5/P1B (io), 4 RD6/PSP6/P1C (io), 5 RD7/PSP7/P1D (io), 6 VSS (power), 7 VDD (power), 8 RB0/INT0/FLT0/AN12 (io), 9 RB1/INT1/AN10 (io), 10 RB2/INT2/AN8 (io), 11 RB3/AN9/CCP2 (io), 12 NC, 13 NC, 14 RB4/KBI0/AN11 (io), 15 RB5/KBI1/T0CKI/C1OUT (io), 16 RB6/KBI2/PGC (io), 17 RB7/KBI3/PGD (io), 18 ~{MCLR} (in), 19 RA0/AN0 (io), 20 RA1/AN1 (io), 21 RA2/AN2/VREF-/CVREF- (io), 22 RA3/AN3/VREF+ (io), 23 VDDCORE/VCAP (power), 24 RA5/AN4/~{SS1}/C2OUT (io), 25 RE0/~{RD}/AN5 (io), 26 RE1/~{WR}/AN6 (io), 27 RE2/~{CS}/AN7 (io), 28 VDD (power), 29 VSS (power), 30 OSC1/CLKI (in), 31 OSC2/CLKO (out), 32 RC0/T1OSO/T1CKI (io), 33 NC, 34 NC, 35 RC1/T1OSI/CCP2 (io), 36 RC2/CCP1/P1A (io), 37 RC3/SCK1/SCL1 (io), 38 RD0/PSP0/SCK2/SCL2 (io), 39 RD1/PSP1/SDI2/SDA2 (io), 40 RD2/PSP2/SDO2 (io), 41 RD3/PSP3/~{SS2} (io), 42 RC4/SDI1/SDA1 (io), 43 RC5/SDO1 (io), 44 RC6/TX/CK (io)

## PIC18LF45J10T-I/ML
designator U?
High Performance RISC Microcontroller with nanoWatt Technology, 32K Flash, 44-Pin QFN, Industrial Temperature Range, Tape and Reel; ComponentAvailability: Unknown. Contact manufacturer to determine status.; Published: 29-Jan-2009; LatestRevisionDate: 02-Dec-2009; LatestRevisionNote: Updated to datasheet revision E, May-2009; DatasheetVersion: revE, May-2009; PackageVersion: revBB, Aug-2009; PackageReference: QFN-ML44; Publisher: Altium Limited; PackageDescription: 44-Lead Plastic Quad Flat, No Lead Package (ML) - 8x8 mm Body [QFN]; Supplier 1: Digi-Key; Supplier Part Number 1: PIC18LF45J10T-I/ML-ND; Code_JEDEC: MO-220; Code_IPC: QFN65P800X800-44V2; ComponentLink1Description: Datasheet; ComponentLink1URL: http://ww1.microchip.com/downloads/en/DeviceDoc/39682E.pdf; ComponentLink2Description: Packaging Specification; ComponentLink2URL: http://www.microchip.com/stellent/groups/techpub_sg/documents/packagingspec/en012702.pdf; ComponentLink3Description: Microchip.com Home; ComponentLink3URL: http://www.microchip.com/
footprint QFN-ML44_N (QFN, 44-Leads, Body 8x8 mm, Pitch 0.65mm, IPC Medium Density)
footprint QFN-ML44_L (QFN, 44-Leads, Body 8x8 mm, Pitch 0.65mm, IPC High Density)
footprint QFN-ML44_M (QFN, 44-Leads, Body 8x8 mm, Pitch 0.65mm, IPC Low Density)
pins: 1 RC7/RX/DT (io), 2 RD4/PSP4 (io), 3 RD5/PSP5/P1B (io), 4 RD6/PSP6/P1C (io), 5 RD7/PSP7/P1D (io), 6 VSS (power), 7 AVDD (power), 8 VDD (power), 9 RB0/INT0/FLT0/AN12 (io), 10 RB1/INT1/AN10 (io), 11 RB2/INT2/AN8 (io), 12 RB3/AN9/CCP2 (io), 13 NC, 14 RB4/KBI0/AN11 (io), 15 RB5/KBI1/T0CKI/C1OUT (io), 16 RB6/KBI2/PGC (io), 17 RB7/KBI3/PGD (io), 18 ~{MCLR} (in), 19 RA0/AN0 (io), 20 RA1/AN1 (io), 21 RA2/AN2/VREF-/CVREF- (io), 22 RA3/AN3/VREF+ (io), 23 VDDCORE/VCAP (power), 24 RA5/AN4/~{SS1}/C2OUT (io), 25 RE0/~{RD}/AN5 (io), 26 RE1/~{WR}/AN6 (io), 27 RE2/~{CS}/AN7 (io), 28 AVDD (power), 29 VDD (power), 30 AVSS (power), 31 VSS (power), 32 OSC1/CLKI (in), 33 OSC2/CLKO (out), 34 RC0/T1OSO/T1CKI (io), 35 RC1/T1OSI/CCP2 (io), 36 RC2/CCP1/P1A (io), 37 RC3/SCK1/SCL1 (io), 38 RD0/PSP0/SCK2/SCL2 (io), 39 RD1/PSP1/SDI2/SDA2 (io), 40 RD2/PSP2/SDO2 (io), 41 RD3/PSP3/~{SS2} (io), 42 RC4/SDI1/SDA1 (io), 43 RC5/SDO1 (io), 44 RC6/TX/CK (io), 45 Thermal Pad (power)

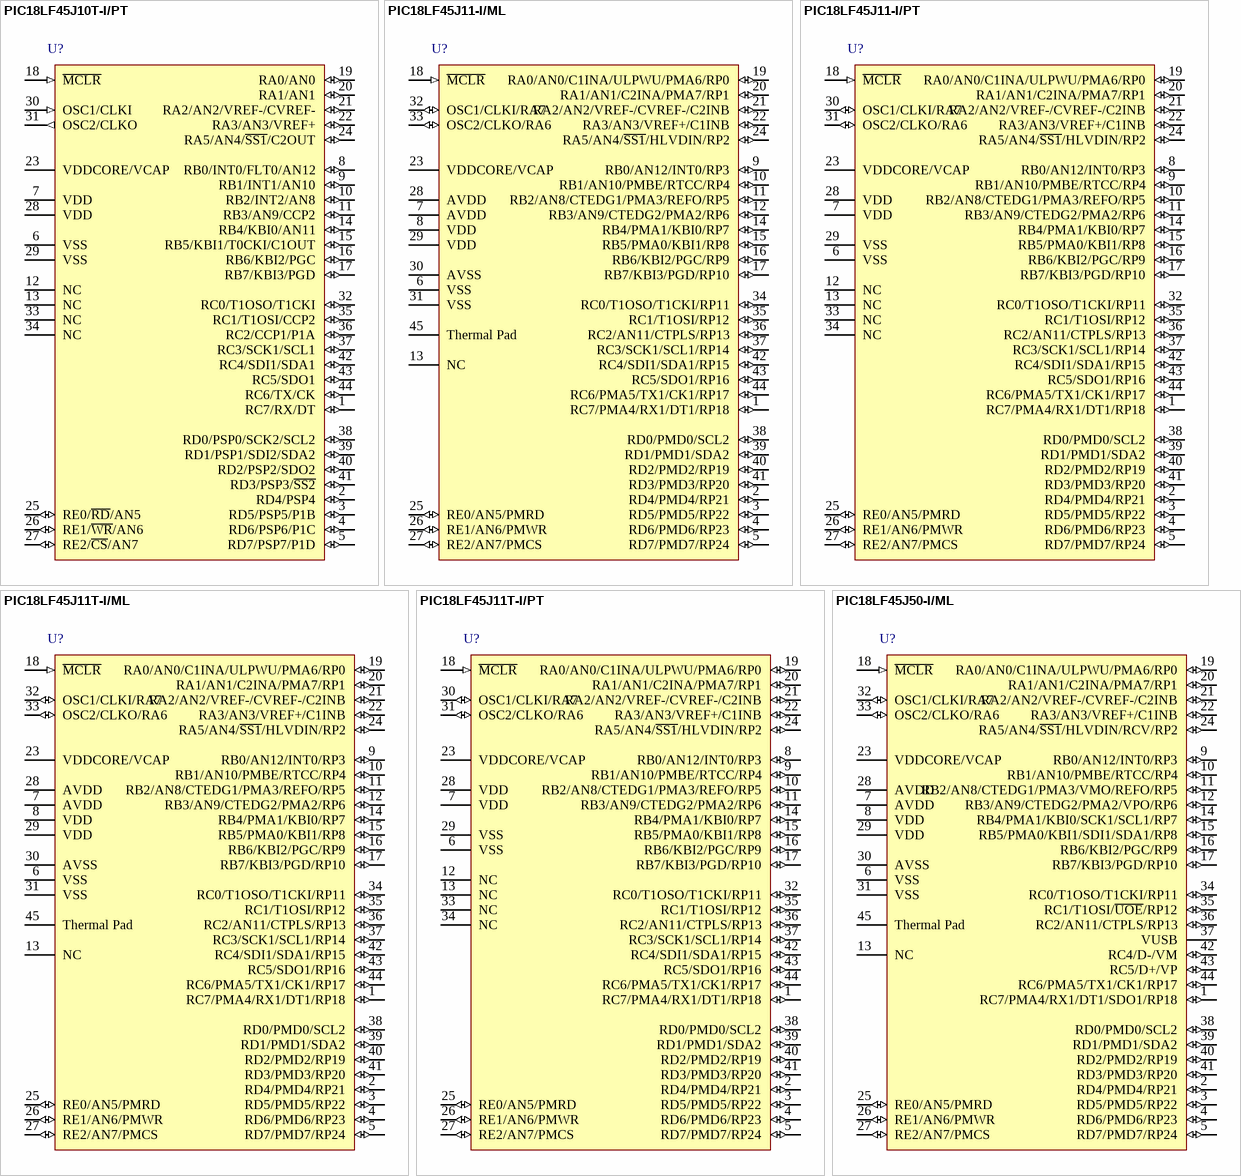
[diagram p114: symbols PIC18LF45J10T-I/PT to PIC18LF45J50-I/ML]

## PIC18LF45J10T-I/PT
designator U?
High Performance RISC Microcontroller with nanoWatt Technology, 32K Flash, 44-Pin TQFP, Industrial Temperature Range, Tape and Reel; ComponentAvailability: Unknown. Contact manufacturer to determine status.; Published: 29-Jan-2009; LatestRevisionDate: 02-Dec-2009; LatestRevisionNote: Updated to datasheet revision E, May-2009; DatasheetVersion: revE, May-2009; PackageVersion: revBB, Aug-2009; PackageReference: TQFP-PT44; Publisher: Altium Limited; PackageDescription: 44-Lead Plastic Thin Quad Flatpack (PT) - 10x10x1mm Body, 2.00mm [TQFP]; Supplier 1: Digi-Key; Supplier Part Number 1: PIC18LF45J10T-I/PT-ND; Code_JEDEC: MS-026; ComponentLink1Description: Datasheet; ComponentLink1URL: http://ww1.microchip.com/downloads/en/DeviceDoc/39682E.pdf; ComponentLink2Description: Packaging Specification; ComponentLink2URL: http://www.microchip.com/stellent/groups/techpub_sg/documents/packagingspec/en012702.pdf; ComponentLink3Description: Microchip.com Home; ComponentLink3URL: http://www.microchip.com/
footprint TQFP-PT44_N (Thin QFP, 44-Leads, Body 10x10mm, Pitch 0.8mm, IPC Medium Density)
footprint TQFP-PT44_L (Thin QFP, 44-Leads, Body 10x10mm, Pitch 0.8mm, IPC High Density)
footprint TQFP-PT44_M (Thin QFP, 44-Leads, Body 10x10mm, Pitch 0.8mm, IPC Low Density)
pins: 1 RC7/RX/DT (io), 2 RD4/PSP4 (io), 3 RD5/PSP5/P1B (io), 4 RD6/PSP6/P1C (io), 5 RD7/PSP7/P1D (io), 6 VSS (power), 7 VDD (power), 8 RB0/INT0/FLT0/AN12 (io), 9 RB1/INT1/AN10 (io), 10 RB2/INT2/AN8 (io), 11 RB3/AN9/CCP2 (io), 12 NC, 13 NC, 14 RB4/KBI0/AN11 (io), 15 RB5/KBI1/T0CKI/C1OUT (io), 16 RB6/KBI2/PGC (io), 17 RB7/KBI3/PGD (io), 18 ~{MCLR} (in), 19 RA0/AN0 (io), 20 RA1/AN1 (io), 21 RA2/AN2/VREF-/CVREF- (io), 22 RA3/AN3/VREF+ (io), 23 VDDCORE/VCAP (power), 24 RA5/AN4/~{SS1}/C2OUT (io), 25 RE0/~{RD}/AN5 (io), 26 RE1/~{WR}/AN6 (io), 27 RE2/~{CS}/AN7 (io), 28 VDD (power), 29 VSS (power), 30 OSC1/CLKI (in), 31 OSC2/CLKO (out), 32 RC0/T1OSO/T1CKI (io), 33 NC, 34 NC, 35 RC1/T1OSI/CCP2 (io), 36 RC2/CCP1/P1A (io), 37 RC3/SCK1/SCL1 (io), 38 RD0/PSP0/SCK2/SCL2 (io), 39 RD1/PSP1/SDI2/SDA2 (io), 40 RD2/PSP2/SDO2 (io), 41 RD3/PSP3/~{SS2} (io), 42 RC4/SDI1/SDA1 (io), 43 RC5/SDO1 (io), 44 RC6/TX/CK (io)

## PIC18LF45J11-I/ML
designator U?
Low Power, High Performance Microcontroller with nanoWatt XLP Technology, 44-pin QFN, Industrial Temperature; Published: 2-Dec-2009; DatasheetVersion: revC, Oct-2009; PackageVersion: revBB, Aug-2009; PackageReference: QFN-ML44; Publisher: Altium Limited; PackageDescription: 44-Lead Plastic Quad Flat, No Lead Package (ML) - 8x8 mm Body [QFN]; Supplier 1: Digi-Key; Supplier Part Number 1: PIC18LF45J11-I/ML-ND; Supplier 2: Farnell; Supplier Part Number 2: 1770738; Code_JEDEC: MO-220; Code_IPC: QFN65P800X800-44V2; ComponentLink1Description: Datasheet; ComponentLink1URL: http://ww1.microchip.com/downloads/en/DeviceDoc/39932c.pdf; ComponentLink2Description: Packaging Specification; ComponentLink2URL: http://www.microchip.com/stellent/groups/techpub_sg/documents/packagingspec/en012702.pdf; ComponentLink3Description: Microchip.com Home; ComponentLink3URL: http://www.microchip.com/
footprint QFN-ML44_N (QFN, 44-Leads, Body 8x8 mm, Pitch 0.65mm, IPC Medium Density)
footprint QFN-ML44_L (QFN, 44-Leads, Body 8x8 mm, Pitch 0.65mm, IPC High Density)
footprint QFN-ML44_M (QFN, 44-Leads, Body 8x8 mm, Pitch 0.65mm, IPC Low Density)
pins: 1 RC7/PMA4/RX1/DT1/RP18 (io), 2 RD4/PMD4/RP21 (io), 3 RD5/PMD5/RP22 (io), 4 RD6/PMD6/RP23 (io), 5 RD7/PMD7/RP24 (io), 6 VSS (power), 7 AVDD (power), 8 VDD (power), 9 RB0/AN12/INT0/RP3 (io), 10 RB1/AN10/PMBE/RTCC/RP4 (io), 11 RB2/AN8/CTEDG1/PMA3/REFO/RP5 (io), 12 RB3/AN9/CTEDG2/PMA2/RP6 (io), 13 NC, 14 RB4/PMA1/KBI0/RP7 (io), 15 RB5/PMA0/KBI1/RP8 (io), 16 RB6/KBI2/PGC/RP9 (io), 17 RB7/KBI3/PGD/RP10 (io), 18 ~{MCLR} (in), 19 RA0/AN0/C1INA/ULPWU/PMA6/RP0 (io), 20 RA1/AN1/C2INA/PMA7/RP1 (io), 21 RA2/AN2/VREF-/CVREF-/C2INB (io), 22 RA3/AN3/VREF+/C1INB (io), 23 VDDCORE/VCAP (power), 24 RA5/AN4/~{SS1}/HLVDIN/RP2 (io), 25 RE0/AN5/PMRD (io), 26 RE1/AN6/PMWR (io), 27 RE2/AN7/PMCS (io), 28 AVDD (power), 29 VDD (power), 30 AVSS (power), 31 VSS (power), 32 OSC1/CLKI/RA7 (io), 33 OSC2/CLKO/RA6 (io), 34 RC0/T1OSO/T1CKI/RP11 (io), 35 RC1/T1OSI/RP12 (io), 36 RC2/AN11/CTPLS/RP13 (io), 37 RC3/SCK1/SCL1/RP14 (io), 38 RD0/PMD0/SCL2 (io), 39 RD1/PMD1/SDA2 (io), 40 RD2/PMD2/RP19 (io), 41 RD3/PMD3/RP20 (io), 42 RC4/SDI1/SDA1/RP15 (io), 43 RC5/SDO1/RP16 (io), 44 RC6/PMA5/TX1/CK1/RP17 (io), 45 Thermal Pad (power)

## PIC18LF45J11-I/PT
designator U?
Low Power, High Performance Microcontroller with nanoWatt XLP Technology, 44-pin TQFP, Industrial Temperature; Published: 2-Dec-2009; DatasheetVersion: revC, Oct-2009; PackageVersion: revBB, Aug-2009; PackageReference: TQFP-PT44; Publisher: Altium Limited; PackageDescription: 44-Lead Plastic Thin Quad Flatpack (PT) - 10x10x1mm Body, 2.00mm [TQFP]; Supplier 1: Digi-Key; Supplier Part Number 1: PIC18LF45J11-I/PT-ND; Supplier 2: Farnell; Supplier Part Number 2: 1770739; Code_JEDEC: MS-026; ComponentLink1Description: Datasheet; ComponentLink1URL: http://ww1.microchip.com/downloads/en/DeviceDoc/39932c.pdf; ComponentLink2Description: Packaging Specification; ComponentLink2URL: http://www.microchip.com/stellent/groups/techpub_sg/documents/packagingspec/en012702.pdf; ComponentLink3Description: Microchip.com Home; ComponentLink3URL: http://www.microchip.com/
footprint TQFP-PT44_N (Thin QFP, 44-Leads, Body 10x10mm, Pitch 0.8mm, IPC Medium Density)
footprint TQFP-PT44_L (Thin QFP, 44-Leads, Body 10x10mm, Pitch 0.8mm, IPC High Density)
footprint TQFP-PT44_M (Thin QFP, 44-Leads, Body 10x10mm, Pitch 0.8mm, IPC Low Density)
pins: 1 RC7/PMA4/RX1/DT1/RP18 (io), 2 RD4/PMD4/RP21 (io), 3 RD5/PMD5/RP22 (io), 4 RD6/PMD6/RP23 (io), 5 RD7/PMD7/RP24 (io), 6 VSS (power), 7 VDD (power), 8 RB0/AN12/INT0/RP3 (io), 9 RB1/AN10/PMBE/RTCC/RP4 (io), 10 RB2/AN8/CTEDG1/PMA3/REFO/RP5 (io), 11 RB3/AN9/CTEDG2/PMA2/RP6 (io), 12 NC, 13 NC, 14 RB4/PMA1/KBI0/RP7 (io), 15 RB5/PMA0/KBI1/RP8 (io), 16 RB6/KBI2/PGC/RP9 (io), 17 RB7/KBI3/PGD/RP10 (io), 18 ~{MCLR} (in), 19 RA0/AN0/C1INA/ULPWU/PMA6/RP0 (io), 20 RA1/AN1/C2INA/PMA7/RP1 (io), 21 RA2/AN2/VREF-/CVREF-/C2INB (io), 22 RA3/AN3/VREF+/C1INB (io), 23 VDDCORE/VCAP (power), 24 RA5/AN4/~{SS1}/HLVDIN/RP2 (io), 25 RE0/AN5/PMRD (io), 26 RE1/AN6/PMWR (io), 27 RE2/AN7/PMCS (io), 28 VDD (power), 29 VSS (power), 30 OSC1/CLKI/RA7 (io), 31 OSC2/CLKO/RA6 (io), 32 RC0/T1OSO/T1CKI/RP11 (io), 33 NC, 34 NC, 35 RC1/T1OSI/RP12 (io), 36 RC2/AN11/CTPLS/RP13 (io), 37 RC3/SCK1/SCL1/RP14 (io), 38 RD0/PMD0/SCL2 (io), 39 RD1/PMD1/SDA2 (io), 40 RD2/PMD2/RP19 (io), 41 RD3/PMD3/RP20 (io), 42 RC4/SDI1/SDA1/RP15 (io), 43 RC5/SDO1/RP16 (io), 44 RC6/PMA5/TX1/CK1/RP17 (io)

## PIC18LF45J11T-I/ML
designator U?
Low Power, High Performance Microcontroller with nanoWatt XLP Technology, 44-pin QFN, Industrial Temperature, Tape and Reel; Published: 2-Dec-2009; DatasheetVersion: revC, Oct-2009; PackageVersion: revBB, Aug-2009; PackageReference: QFN-ML44; Publisher: Altium Limited; PackageDescription: 44-Lead Plastic Quad Flat, No Lead Package (ML) - 8x8 mm Body [QFN]; Supplier 1: Digi-Key; Supplier Part Number 1: PIC18LF45J11T-I/ML-ND; Code_JEDEC: MO-220; Code_IPC: QFN65P800X800-44V2; ComponentLink1Description: Datasheet; ComponentLink1URL: http://ww1.microchip.com/downloads/en/DeviceDoc/39932c.pdf; ComponentLink2Description: Packaging Specification; ComponentLink2URL: http://www.microchip.com/stellent/groups/techpub_sg/documents/packagingspec/en012702.pdf; ComponentLink3Description: Microchip.com Home; ComponentLink3URL: http://www.microchip.com/
footprint QFN-ML44_N (QFN, 44-Leads, Body 8x8 mm, Pitch 0.65mm, IPC Medium Density)
footprint QFN-ML44_L (QFN, 44-Leads, Body 8x8 mm, Pitch 0.65mm, IPC High Density)
footprint QFN-ML44_M (QFN, 44-Leads, Body 8x8 mm, Pitch 0.65mm, IPC Low Density)
pins: 1 RC7/PMA4/RX1/DT1/RP18 (io), 2 RD4/PMD4/RP21 (io), 3 RD5/PMD5/RP22 (io), 4 RD6/PMD6/RP23 (io), 5 RD7/PMD7/RP24 (io), 6 VSS (power), 7 AVDD (power), 8 VDD (power), 9 RB0/AN12/INT0/RP3 (io), 10 RB1/AN10/PMBE/RTCC/RP4 (io), 11 RB2/AN8/CTEDG1/PMA3/REFO/RP5 (io), 12 RB3/AN9/CTEDG2/PMA2/RP6 (io), 13 NC, 14 RB4/PMA1/KBI0/RP7 (io), 15 RB5/PMA0/KBI1/RP8 (io), 16 RB6/KBI2/PGC/RP9 (io), 17 RB7/KBI3/PGD/RP10 (io), 18 ~{MCLR} (in), 19 RA0/AN0/C1INA/ULPWU/PMA6/RP0 (io), 20 RA1/AN1/C2INA/PMA7/RP1 (io), 21 RA2/AN2/VREF-/CVREF-/C2INB (io), 22 RA3/AN3/VREF+/C1INB (io), 23 VDDCORE/VCAP (power), 24 RA5/AN4/~{SS1}/HLVDIN/RP2 (io), 25 RE0/AN5/PMRD (io), 26 RE1/AN6/PMWR (io), 27 RE2/AN7/PMCS (io), 28 AVDD (power), 29 VDD (power), 30 AVSS (power), 31 VSS (power), 32 OSC1/CLKI/RA7 (io), 33 OSC2/CLKO/RA6 (io), 34 RC0/T1OSO/T1CKI/RP11 (io), 35 RC1/T1OSI/RP12 (io), 36 RC2/AN11/CTPLS/RP13 (io), 37 RC3/SCK1/SCL1/RP14 (io), 38 RD0/PMD0/SCL2 (io), 39 RD1/PMD1/SDA2 (io), 40 RD2/PMD2/RP19 (io), 41 RD3/PMD3/RP20 (io), 42 RC4/SDI1/SDA1/RP15 (io), 43 RC5/SDO1/RP16 (io), 44 RC6/PMA5/TX1/CK1/RP17 (io), 45 Thermal Pad (power)

## PIC18LF45J11T-I/PT
designator U?
Low Power, High Performance Microcontroller with nanoWatt XLP Technology, 44-pin TQFP, Industrial Temperature, Tape and Reel; Published: 2-Dec-2009; DatasheetVersion: revC, Oct-2009; PackageVersion: revBB, Aug-2009; PackageReference: TQFP-PT44; Publisher: Altium Limited; PackageDescription: 44-Lead Plastic Thin Quad Flatpack (PT) - 10x10x1mm Body, 2.00mm [TQFP]; Supplier 1: Digi-Key; Supplier Part Number 1: PIC18LF45J11T-I/PT-ND; Code_JEDEC: MS-026; ComponentLink1Description: Datasheet; ComponentLink1URL: http://ww1.microchip.com/downloads/en/DeviceDoc/39932c.pdf; ComponentLink2Description: Packaging Specification; ComponentLink2URL: http://www.microchip.com/stellent/groups/techpub_sg/documents/packagingspec/en012702.pdf; ComponentLink3Description: Microchip.com Home; ComponentLink3URL: http://www.microchip.com/
footprint TQFP-PT44_N (Thin QFP, 44-Leads, Body 10x10mm, Pitch 0.8mm, IPC Medium Density)
footprint TQFP-PT44_L (Thin QFP, 44-Leads, Body 10x10mm, Pitch 0.8mm, IPC High Density)
footprint TQFP-PT44_M (Thin QFP, 44-Leads, Body 10x10mm, Pitch 0.8mm, IPC Low Density)
pins: 1 RC7/PMA4/RX1/DT1/RP18 (io), 2 RD4/PMD4/RP21 (io), 3 RD5/PMD5/RP22 (io), 4 RD6/PMD6/RP23 (io), 5 RD7/PMD7/RP24 (io), 6 VSS (power), 7 VDD (power), 8 RB0/AN12/INT0/RP3 (io), 9 RB1/AN10/PMBE/RTCC/RP4 (io), 10 RB2/AN8/CTEDG1/PMA3/REFO/RP5 (io), 11 RB3/AN9/CTEDG2/PMA2/RP6 (io), 12 NC, 13 NC, 14 RB4/PMA1/KBI0/RP7 (io), 15 RB5/PMA0/KBI1/RP8 (io), 16 RB6/KBI2/PGC/RP9 (io), 17 RB7/KBI3/PGD/RP10 (io), 18 ~{MCLR} (in), 19 RA0/AN0/C1INA/ULPWU/PMA6/RP0 (io), 20 RA1/AN1/C2INA/PMA7/RP1 (io), 21 RA2/AN2/VREF-/CVREF-/C2INB (io), 22 RA3/AN3/VREF+/C1INB (io), 23 VDDCORE/VCAP (power), 24 RA5/AN4/~{SS1}/HLVDIN/RP2 (io), 25 RE0/AN5/PMRD (io), 26 RE1/AN6/PMWR (io), 27 RE2/AN7/PMCS (io), 28 VDD (power), 29 VSS (power), 30 OSC1/CLKI/RA7 (io), 31 OSC2/CLKO/RA6 (io), 32 RC0/T1OSO/T1CKI/RP11 (io), 33 NC, 34 NC, 35 RC1/T1OSI/RP12 (io), 36 RC2/AN11/CTPLS/RP13 (io), 37 RC3/SCK1/SCL1/RP14 (io), 38 RD0/PMD0/SCL2 (io), 39 RD1/PMD1/SDA2 (io), 40 RD2/PMD2/RP19 (io), 41 RD3/PMD3/RP20 (io), 42 RC4/SDI1/SDA1/RP15 (io), 43 RC5/SDO1/RP16 (io), 44 RC6/PMA5/TX1/CK1/RP17 (io)

## PIC18LF45J50-I/ML
designator U?
Low Power, High Performance USB Microcontroller with nanoWatt XLP Technology, 44-pin QFN, Industrial Temperature; Published: 2-Dec-2009; DatasheetVersion: revC, Oct-2009; PackageVersion: revBB, Aug-2009; PackageReference: QFN-ML44; Publisher: Altium Limited; PackageDescription: 44-Lead Plastic Quad Flat, No Lead Package (ML) - 8x8 mm Body [QFN]; Supplier 1: Digi-Key; Supplier Part Number 1: PIC18LF45J50-I/ML-ND; Supplier 2: Farnell; Supplier Part Number 2: 1770740; Code_JEDEC: MO-220; Code_IPC: QFN65P800X800-44V2; ComponentLink1Description: Datasheet; ComponentLink1URL: http://ww1.microchip.com/downloads/en/DeviceDoc/39931c.pdf; ComponentLink2Description: Packaging Specification; ComponentLink2URL: http://www.microchip.com/stellent/groups/techpub_sg/documents/packagingspec/en012702.pdf; ComponentLink3Description: Microchip.com Home; ComponentLink3URL: http://www.microchip.com/
footprint QFN-ML44_N (QFN, 44-Leads, Body 8x8 mm, Pitch 0.65mm, IPC Medium Density)
footprint QFN-ML44_L (QFN, 44-Leads, Body 8x8 mm, Pitch 0.65mm, IPC High Density)
footprint QFN-ML44_M (QFN, 44-Leads, Body 8x8 mm, Pitch 0.65mm, IPC Low Density)
pins: 1 RC7/PMA4/RX1/DT1/SDO1/RP18 (io), 2 RD4/PMD4/RP21 (io), 3 RD5/PMD5/RP22 (io), 4 RD6/PMD6/RP23 (io), 5 RD7/PMD7/RP24 (io), 6 VSS (power), 7 AVDD (power), 8 VDD (power), 9 RB0/AN12/INT0/RP3 (io), 10 RB1/AN10/PMBE/RTCC/RP4 (io), 11 RB2/AN8/CTEDG1/PMA3/VMO/REFO/RP5 (io), 12 RB3/AN9/CTEDG2/PMA2/VPO/RP6 (io), 13 NC, 14 RB4/PMA1/KBI0/SCK1/SCL1/RP7 (io), 15 RB5/PMA0/KBI1/SDI1/SDA1/RP8 (io), 16 RB6/KBI2/PGC/RP9 (io), 17 RB7/KBI3/PGD/RP10 (io), 18 ~{MCLR} (in), 19 RA0/AN0/C1INA/ULPWU/PMA6/RP0 (io), 20 RA1/AN1/C2INA/PMA7/RP1 (io), 21 RA2/AN2/VREF-/CVREF-/C2INB (io), 22 RA3/AN3/VREF+/C1INB (io), 23 VDDCORE/VCAP (power), 24 RA5/AN4/~{SS1}/HLVDIN/RCV/RP2 (io), 25 RE0/AN5/PMRD (io), 26 RE1/AN6/PMWR (io), 27 RE2/AN7/PMCS (io), 28 AVDD (power), 29 VDD (power), 30 AVSS (power), 31 VSS (power), 32 OSC1/CLKI/RA7 (io), 33 OSC2/CLKO/RA6 (io), 34 RC0/T1OSO/T1CKI/RP11 (io), 35 RC1/T1OSI/~{UOE}/RP12 (io), 36 RC2/AN11/CTPLS/RP13 (io), 37 VUSB (power), 38 RD0/PMD0/SCL2 (io), 39 RD1/PMD1/SDA2 (io), 40 RD2/PMD2/RP19 (io), 41 RD3/PMD3/RP20 (io), 42 RC4/D-/VM (io), 43 RC5/D+/VP (io), 44 RC6/PMA5/TX1/CK1/RP17 (io), 45 Thermal Pad (power)

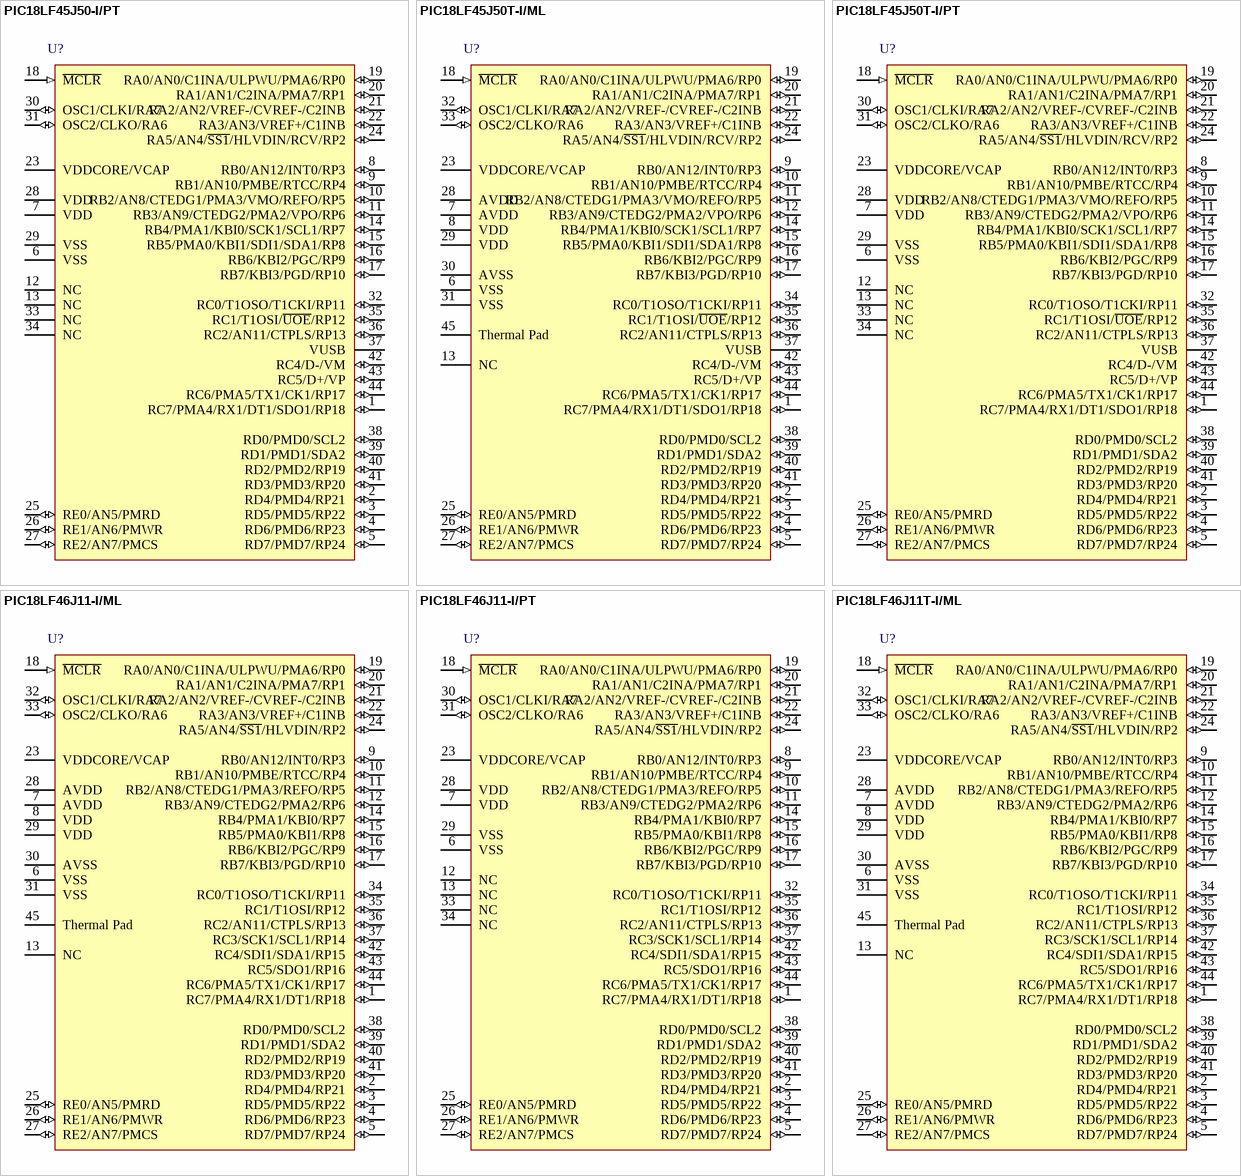
[diagram p115: symbols PIC18LF45J50-I/PT to PIC18LF46J11T-I/ML]

## PIC18LF45J50-I/PT
designator U?
Low Power, High Performance USB Microcontroller with nanoWatt XLP Technology, 44-pin TQFP, Industrial Temperature; Published: 2-Dec-2009; DatasheetVersion: revC, Oct-2009; PackageVersion: revBB, Aug-2009; PackageReference: TQFP-PT44; Publisher: Altium Limited; PackageDescription: 44-Lead Plastic Thin Quad Flatpack (PT) - 10x10x1mm Body, 2.00mm [TQFP]; Supplier 1: Digi-Key; Supplier Part Number 1: PIC18LF45J50-I/PT-ND; Supplier 2: Farnell; Supplier Part Number 2: 1770741; Code_JEDEC: MS-026; ComponentLink1Description: Datasheet; ComponentLink1URL: http://ww1.microchip.com/downloads/en/DeviceDoc/39931c.pdf; ComponentLink2Description: Packaging Specification; ComponentLink2URL: http://www.microchip.com/stellent/groups/techpub_sg/documents/packagingspec/en012702.pdf; ComponentLink3Description: Microchip.com Home; ComponentLink3URL: http://www.microchip.com/
footprint TQFP-PT44_N (Thin QFP, 44-Leads, Body 10x10mm, Pitch 0.8mm, IPC Medium Density)
footprint TQFP-PT44_L (Thin QFP, 44-Leads, Body 10x10mm, Pitch 0.8mm, IPC High Density)
footprint TQFP-PT44_M (Thin QFP, 44-Leads, Body 10x10mm, Pitch 0.8mm, IPC Low Density)
pins: 1 RC7/PMA4/RX1/DT1/SDO1/RP18 (io), 2 RD4/PMD4/RP21 (io), 3 RD5/PMD5/RP22 (io), 4 RD6/PMD6/RP23 (io), 5 RD7/PMD7/RP24 (io), 6 VSS (power), 7 VDD (power), 8 RB0/AN12/INT0/RP3 (io), 9 RB1/AN10/PMBE/RTCC/RP4 (io), 10 RB2/AN8/CTEDG1/PMA3/VMO/REFO/RP5 (io), 11 RB3/AN9/CTEDG2/PMA2/VPO/RP6 (io), 12 NC, 13 NC, 14 RB4/PMA1/KBI0/SCK1/SCL1/RP7 (io), 15 RB5/PMA0/KBI1/SDI1/SDA1/RP8 (io), 16 RB6/KBI2/PGC/RP9 (io), 17 RB7/KBI3/PGD/RP10 (io), 18 ~{MCLR} (in), 19 RA0/AN0/C1INA/ULPWU/PMA6/RP0 (io), 20 RA1/AN1/C2INA/PMA7/RP1 (io), 21 RA2/AN2/VREF-/CVREF-/C2INB (io), 22 RA3/AN3/VREF+/C1INB (io), 23 VDDCORE/VCAP (power), 24 RA5/AN4/~{SS1}/HLVDIN/RCV/RP2 (io), 25 RE0/AN5/PMRD (io), 26 RE1/AN6/PMWR (io), 27 RE2/AN7/PMCS (io), 28 VDD (power), 29 VSS (power), 30 OSC1/CLKI/RA7 (io), 31 OSC2/CLKO/RA6 (io), 32 RC0/T1OSO/T1CKI/RP11 (io), 33 NC, 34 NC, 35 RC1/T1OSI/~{UOE}/RP12 (io), 36 RC2/AN11/CTPLS/RP13 (io), 37 VUSB (power), 38 RD0/PMD0/SCL2 (io), 39 RD1/PMD1/SDA2 (io), 40 RD2/PMD2/RP19 (io), 41 RD3/PMD3/RP20 (io), 42 RC4/D-/VM (io), 43 RC5/D+/VP (io), 44 RC6/PMA5/TX1/CK1/RP17 (io)

## PIC18LF45J50T-I/ML
designator U?
Low Power, High Performance USB Microcontroller with nanoWatt XLP Technology, 44-pin QFN, Industrial Temperature, Tape and Reel; Published: 2-Dec-2009; DatasheetVersion: revC, Oct-2009; PackageVersion: revBB, Aug-2009; PackageReference: QFN-ML44; Publisher: Altium Limited; PackageDescription: 44-Lead Plastic Quad Flat, No Lead Package (ML) - 8x8 mm Body [QFN]; Supplier 1: Digi-Key; Supplier Part Number 1: PIC18LF45J50T-I/ML-ND; Code_JEDEC: MO-220; Code_IPC: QFN65P800X800-44V2; ComponentLink1Description: Datasheet; ComponentLink1URL: http://ww1.microchip.com/downloads/en/DeviceDoc/39931c.pdf; ComponentLink2Description: Packaging Specification; ComponentLink2URL: http://www.microchip.com/stellent/groups/techpub_sg/documents/packagingspec/en012702.pdf; ComponentLink3Description: Microchip.com Home; ComponentLink3URL: http://www.microchip.com/
footprint QFN-ML44_N (QFN, 44-Leads, Body 8x8 mm, Pitch 0.65mm, IPC Medium Density)
footprint QFN-ML44_L (QFN, 44-Leads, Body 8x8 mm, Pitch 0.65mm, IPC High Density)
footprint QFN-ML44_M (QFN, 44-Leads, Body 8x8 mm, Pitch 0.65mm, IPC Low Density)
pins: 1 RC7/PMA4/RX1/DT1/SDO1/RP18 (io), 2 RD4/PMD4/RP21 (io), 3 RD5/PMD5/RP22 (io), 4 RD6/PMD6/RP23 (io), 5 RD7/PMD7/RP24 (io), 6 VSS (power), 7 AVDD (power), 8 VDD (power), 9 RB0/AN12/INT0/RP3 (io), 10 RB1/AN10/PMBE/RTCC/RP4 (io), 11 RB2/AN8/CTEDG1/PMA3/VMO/REFO/RP5 (io), 12 RB3/AN9/CTEDG2/PMA2/VPO/RP6 (io), 13 NC, 14 RB4/PMA1/KBI0/SCK1/SCL1/RP7 (io), 15 RB5/PMA0/KBI1/SDI1/SDA1/RP8 (io), 16 RB6/KBI2/PGC/RP9 (io), 17 RB7/KBI3/PGD/RP10 (io), 18 ~{MCLR} (in), 19 RA0/AN0/C1INA/ULPWU/PMA6/RP0 (io), 20 RA1/AN1/C2INA/PMA7/RP1 (io), 21 RA2/AN2/VREF-/CVREF-/C2INB (io), 22 RA3/AN3/VREF+/C1INB (io), 23 VDDCORE/VCAP (power), 24 RA5/AN4/~{SS1}/HLVDIN/RCV/RP2 (io), 25 RE0/AN5/PMRD (io), 26 RE1/AN6/PMWR (io), 27 RE2/AN7/PMCS (io), 28 AVDD (power), 29 VDD (power), 30 AVSS (power), 31 VSS (power), 32 OSC1/CLKI/RA7 (io), 33 OSC2/CLKO/RA6 (io), 34 RC0/T1OSO/T1CKI/RP11 (io), 35 RC1/T1OSI/~{UOE}/RP12 (io), 36 RC2/AN11/CTPLS/RP13 (io), 37 VUSB (power), 38 RD0/PMD0/SCL2 (io), 39 RD1/PMD1/SDA2 (io), 40 RD2/PMD2/RP19 (io), 41 RD3/PMD3/RP20 (io), 42 RC4/D-/VM (io), 43 RC5/D+/VP (io), 44 RC6/PMA5/TX1/CK1/RP17 (io), 45 Thermal Pad (power)